# Altium footprint library 19772231.PcbLib: 1 footprints
Each footprint in its own frame and in the unit in brackets; x right, y up, seen from the top. Pads: shape width x height; smd on the part's side, far side on the other; paste and mask are expansions set on the pad; w line width, h text height; cw(c..) or ccw(c..) is an arc to the next point about the centre after c.
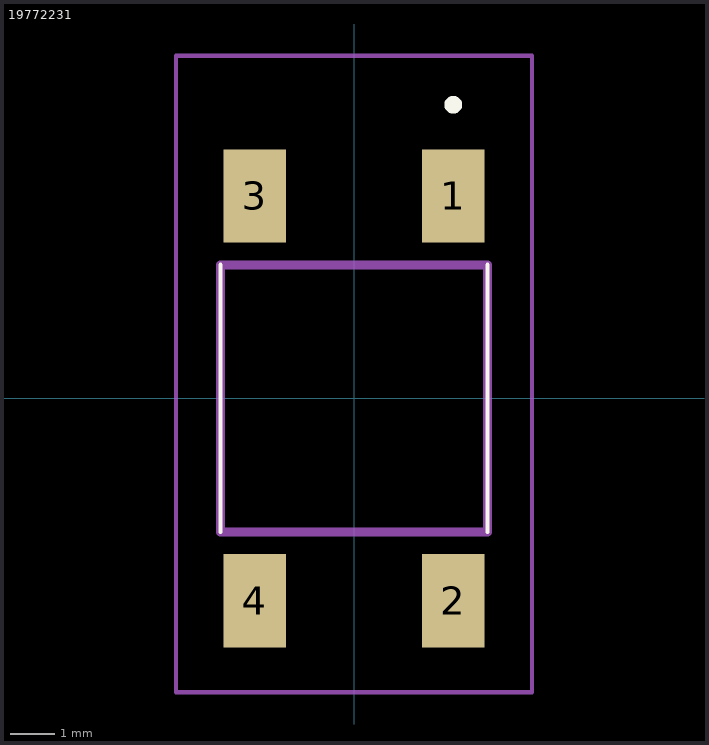
[diagram p0: the footprint, top view; thin cyan lines are the x and y axes]

## 19772231 [mm]
pads (4):
  rect 1.4x2.1 smd: 1(2.23,4.55) 2(2.23,-4.55) 3(-2.23,4.55) 4(-2.23,-4.55)
Top Overlay:
  lines w0.1: -3,-3 -3,3 ; 3,-3 3,3
  lines w0.2: 2.23,6.5 2.23,6.5 ; 2.23,6.5 ccw(c2.23,6.6) 2.23,6.7 ; 2.23,6.5 cw(c2.23,6.6) 2.23,6.7 ; 2.23,6.7 2.23,6.7
Mechanical 15:
  lines w0.2: -3,-3 3,-3 3,3 -3,3 -3,-3
Mechanical 20:
  lines w0.1: -4,-6.6 4,-6.6 4,7.7 -4,7.7 -4,-6.6